# Altium schematic symbol library MAXIM7219.SchLib: 1 symbol
Pins are listed as number, name and electrical type; pins without a type are passive.

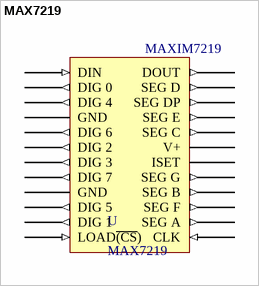
[diagram p0: symbol MAX7219]

## MAX7219
designator U
Serial Interface, 8-Digit LED Display Drivers
footprint SOIC127P1030X235-24N (SOIC, 24-Leads, Body 15.40x7.50mm, Pitch 1.27mm, IPC Medium Density)
footprint DIP24
pins: 1 DIN (in), 2 DIG 0 (out), 3 DIG 4 (out), 4 GND (power), 5 DIG 6 (out), 6 DIG 2 (out), 7 DIG 3 (out), 8 DIG 7 (out), 9 GND (power), 10 DIG 5 (out), 11 DIG 1 (out), 12 LOAD~{(CS}) (in), 13 CLK (in), 14 SEG A (out), 15 SEG F (out), 16 SEG B (out), 17 SEG G (out), 18 ISET, 19 V+ (power), 20 SEG C (out), 21 SEG E (out), 22 SEG DP (out), 23 SEG D (out), 24 DOUT (out)
text: MAXIM7219